# Altium schematic symbol library IDTILab.SchLib: 73 symbols
Pins are listed as number, name and electrical type; pins without a type are passive.

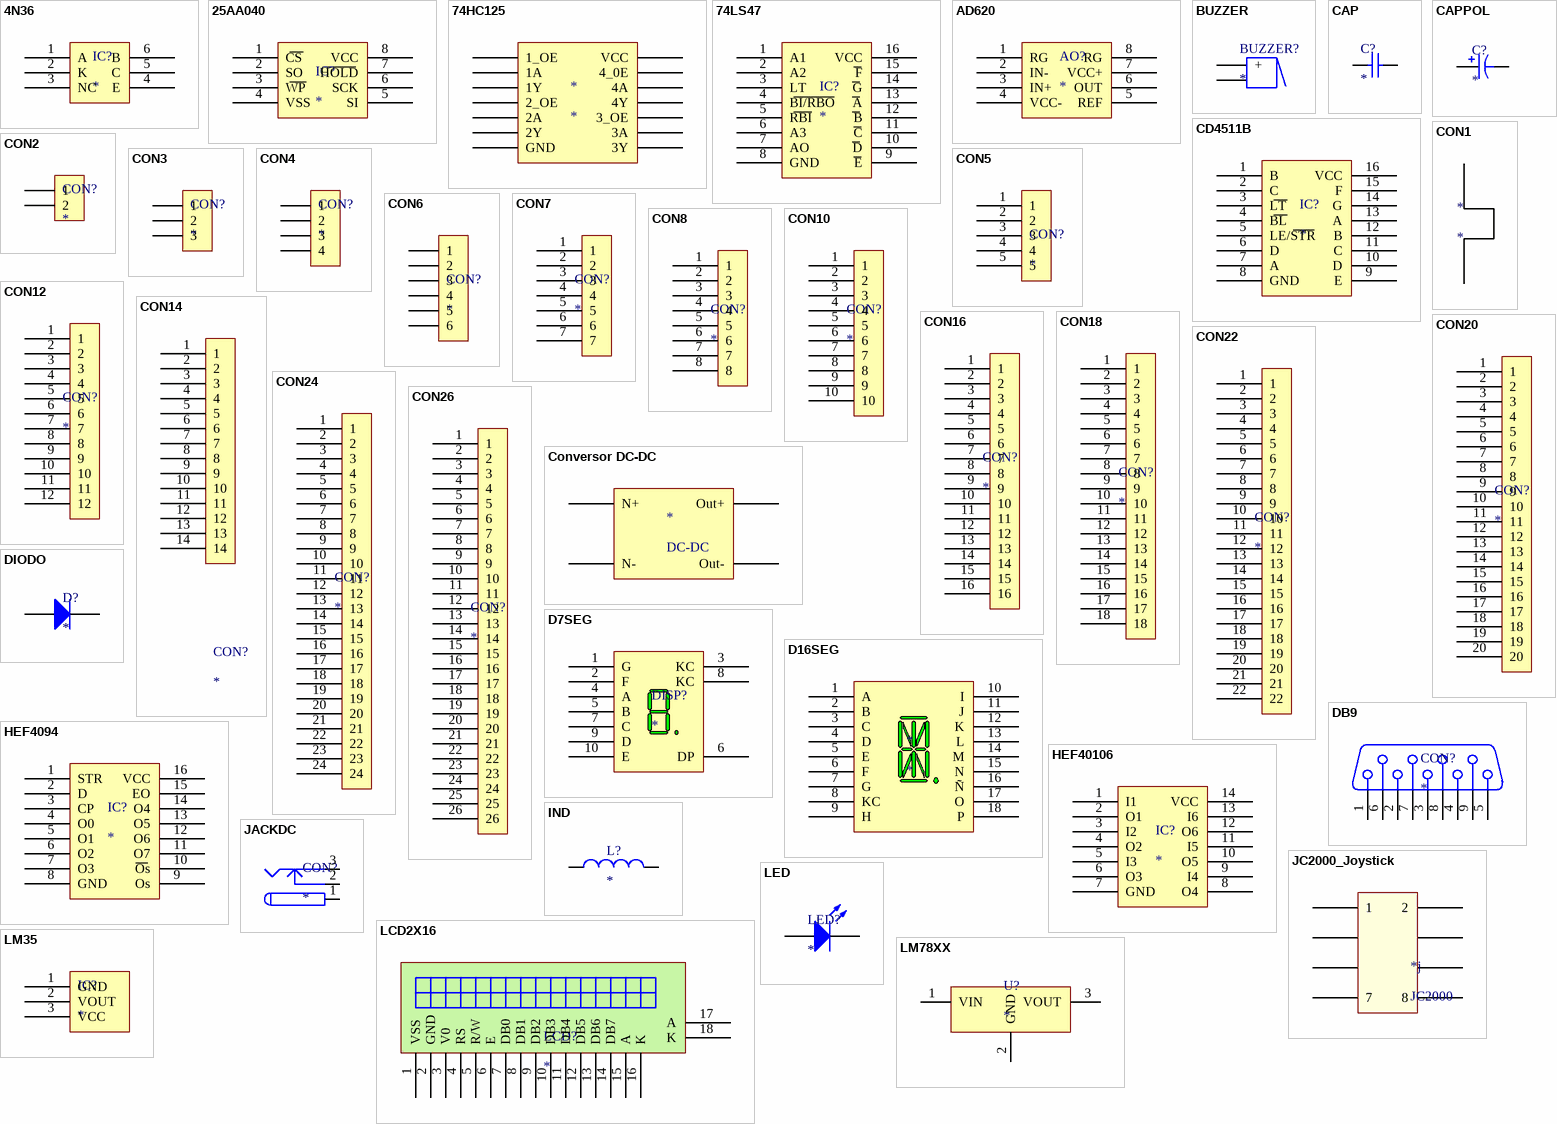
[diagram p0: symbols 4N36 to LM78XX]

## 4N36
designator IC?
Optoacoplador - Salida Transistor
footprint DIP6
pins: 1 A, 2 K, 3 NC, 4 E, 5 C, 6 B

## 25AA040
designator IC?
Memoria Serial - SPI
footprint DIP8
pins: 1 CS, 2 SO, 3 WP, 4 VSS, 5 SI, 6 SCK, 7 HOLD, 8 VCC

## 74HC125
designator *
footprint DIP14B (DIP14 con top layer bloqueado)
pins: 1 1_OE, 2 1A, 3 1Y, 4 2_OE, 5 2A, 6 2Y, 7 GND, 8 3Y, 9 3A, 10 3_OE, 11 4Y, 12 4A, 13 4_0E, 14 VCC

## 74LS47
designator IC?
Conversor BCD - 7 Segmentos
footprint DIP16
pins: 1 A1, 2 A2, 3 LT, 4 BI/RBO, 5 RBI, 6 A3, 7 AO, 8 GND, 9 E, 10 D, 11 C, 12 B, 13 A, 14 G, 15 F, 16 VCC

## AD620
designator AO?
Amplificador Operacional de Instrumentacion
footprint DIP8
pins: 1 RG, 2 IN-, 3 IN+, 4 VCC-, 5 REF, 6 OUT, 7 VCC+, 8 RG

## BUZZER
designator BUZZER?
Buzzer
footprint BUZZER
pins: 1 +, 2

## CAP
designator C?
Capacitor
footprint CAP100
footprint CAP200
footprint CAP300
footprint CAP500
pins: 1, 2

## CAPPOL
designator C?
Capacitor Polarizado
footprint CAPPOL100
footprint CAPPOL200
footprint CAPPOL300
pins: 1, 2

## CD4511B
designator IC?
Conversor BCD - 7 Segmentos
footprint DIP16
pins: 1 B, 2 C, 3 LT, 4 BL, 5 LE/STR, 6 D, 7 A, 8 GND, 9 E, 10 D, 11 C, 12 B, 13 A, 14 G, 15 F, 16 VCC

## CON1
designator *
footprint CON1
pins: 1, 2

## CON2
designator CON?
Conector 2
footprint BORNERA2
footprint BORNERA2B
pins: 1, 2

## CON3
designator CON?
Conector 3
footprint BORNERA3
footprint BORNERA3B
pins: 1, 2, 3

## CON4
designator CON?
Conector 4
footprint BORNERA4
footprint BORNERA4B
footprint MINIDIN4
footprint MINIDIN4B
footprint CON2X2
footprint RJ11
pins: 1, 2, 3, 4

## CON5
designator CON?
Conector 5
footprint CON5
pins: 1, 2, 3, 4, 5

## CON6
designator CON?
Conector 6
footprint BORNERA6 (Footprint not found)
footprint BORNERA6B
footprint MINIDIN6
footprint MINIDIN6B
footprint CON2X3
pins: 1, 2, 3, 4, 5, 6

## CON7
designator CON?
Conector 7
footprint CON7
pins: 1, 2, 3, 4, 5, 6, 7

## CON8
designator CON?
Conector 8
footprint CON8
footprint RJ45
footprint RJ45B
footprint CON2X4
pins: 1, 2, 3, 4, 5, 6, 7, 8

## CON10
designator CON?
Conector 10
footprint CON2X5
pins: 1, 2, 3, 4, 5, 6, 7, 8, 9, 10

## CON12
designator CON?
Conector 12
footprint CON2X6
pins: 1, 2, 3, 4, 5, 6, 7, 8, 9, 10, 11, 12

## CON14
designator CON?
Conector 14
footprint CON2X7
pins: 1, 2, 3, 4, 5, 6, 7, 8, 9, 10, 11, 12, 13, 14

## CON16
designator CON?
Conector 16
footprint CON2X8
pins: 1, 2, 3, 4, 5, 6, 7, 8, 9, 10, 11, 12, 13, 14, 15, 16

## CON18
designator CON?
Conector 18
footprint CON2X9
pins: 1, 2, 3, 4, 5, 6, 7, 8, 9, 10, 11, 12, 13, 14, 15, 16, 17, 18

## CON20
designator CON?
Conector 20
footprint CON2X10
pins: 1, 2, 3, 4, 5, 6, 7, 8, 9, 10, 11, 12, 13, 14, 15, 16, 17, 18, 19, 20

## CON22
designator CON?
Conector 22
footprint CON2X11
pins: 1, 2, 3, 4, 5, 6, 7, 8, 9, 10, 11, 12, 13, 14, 15, 16, 17, 18, 19, 20, 21, 22

## CON24
designator CON?
Conector 24
footprint CON2X12
pins: 1, 2, 3, 4, 5, 6, 7, 8, 9, 10, 11, 12, 13, 14, 15, 16, 17, 18, 19, 20, 21, 22, 23, 24

## CON26
designator CON?
Conector 26
footprint CON2X13
pins: 1, 2, 3, 4, 5, 6, 7, 8, 9, 10, 11, 12, 13, 14, 15, 16, 17, 18, 19, 20, 21, 22, 23, 24, 25, 26

## Conversor DC-DC
designator *, comment DC-DC
footprint Conversor DC-DC
pins: Nn N-, Np N+, Outn Out-, Outp Out+

## D7SEG
designator DISP?
Display 7 Segmentos
footprint D7SEG
pins: 1 G, 2 F, 3 KC, 4 A, 5 B, 6 DP, 7 C, 8 KC, 9 D, 10 E

## D16SEG
designator *
Display 16 Segmentos
footprint D16SEG
pins: 1 A, 2 B, 3 C, 4 D, 5 E, 6 F, 7 G, 8 KC, 9 H, 10 I, 11 J, 12 K, 13 L, 14 M, 15 N, 16 Ñ, 17 O, 18 P

## DB9
designator CON?
Conector DB9
footprint DB9H
footprint DB9M
pins: 1, 2, 3, 4, 5, 6, 7, 8, 9

## DIODO
designator D?
Diodo
footprint DIODO300
footprint DIODO400
footprint DIODO600
footprint DIODO6003A
pins: 1 A, 2 K

## HEF4094
designator IC?
Registro de Desplazamiento
footprint DIP16
pins: 1 STR, 2 D, 3 CP, 4 O0, 5 O1, 6 O2, 7 O3, 8 GND, 9 Os, 10 Os, 11 O7, 12 O6, 13 O5, 14 O4, 15 EO, 16 VCC

## HEF40106
designator IC?
Inversor Trigger Schmitt
footprint DIP14
pins: 1 I1, 2 O1, 3 I2, 4 O2, 5 I3, 6 O3, 7 GND, 8 O4, 9 I4, 10 O5, 11 I5, 12 O6, 13 I6, 14 VCC

## IND
designator L?
Inductancia
footprint RES400
pins: 1, 2

## JACKDC
designator CON?
Conector Jack DC
footprint JACKDC
pins: 1 (power), 2 (power), 3 (power)

## JC2000_Joystick
designator *j, comment JC2000
footprint JC2000
pins: 1, 2, 3, 4, 5, 6, 7, 8

## LCD2X16
designator LCD?
LCD Alfanumerico de 16X2
footprint CON2X9
pins: 1 VSS, 2 GND, 3 V0, 4 RS, 5 R/W, 6 E, 7 DB0, 8 DB1, 9 DB2, 10 DB3, 11 DB4, 12 DB5, 13 DB6, 14 DB7, 15 A, 16 K, 17 A, 18 K

## LED
designator LED?
Diodo Led
footprint LED
pins: 1 A, 2 K

## LM35
designator IC?
Sensor de Temperatura Lineal
footprint BC
pins: 1 GND, 2 VOUT, 3 VCC

## LM78XX
designator U?
Regulador de Tension - Voltajes Positivos
footprint TO220
pins: 1 VIN, 2 GND, 3 VOUT

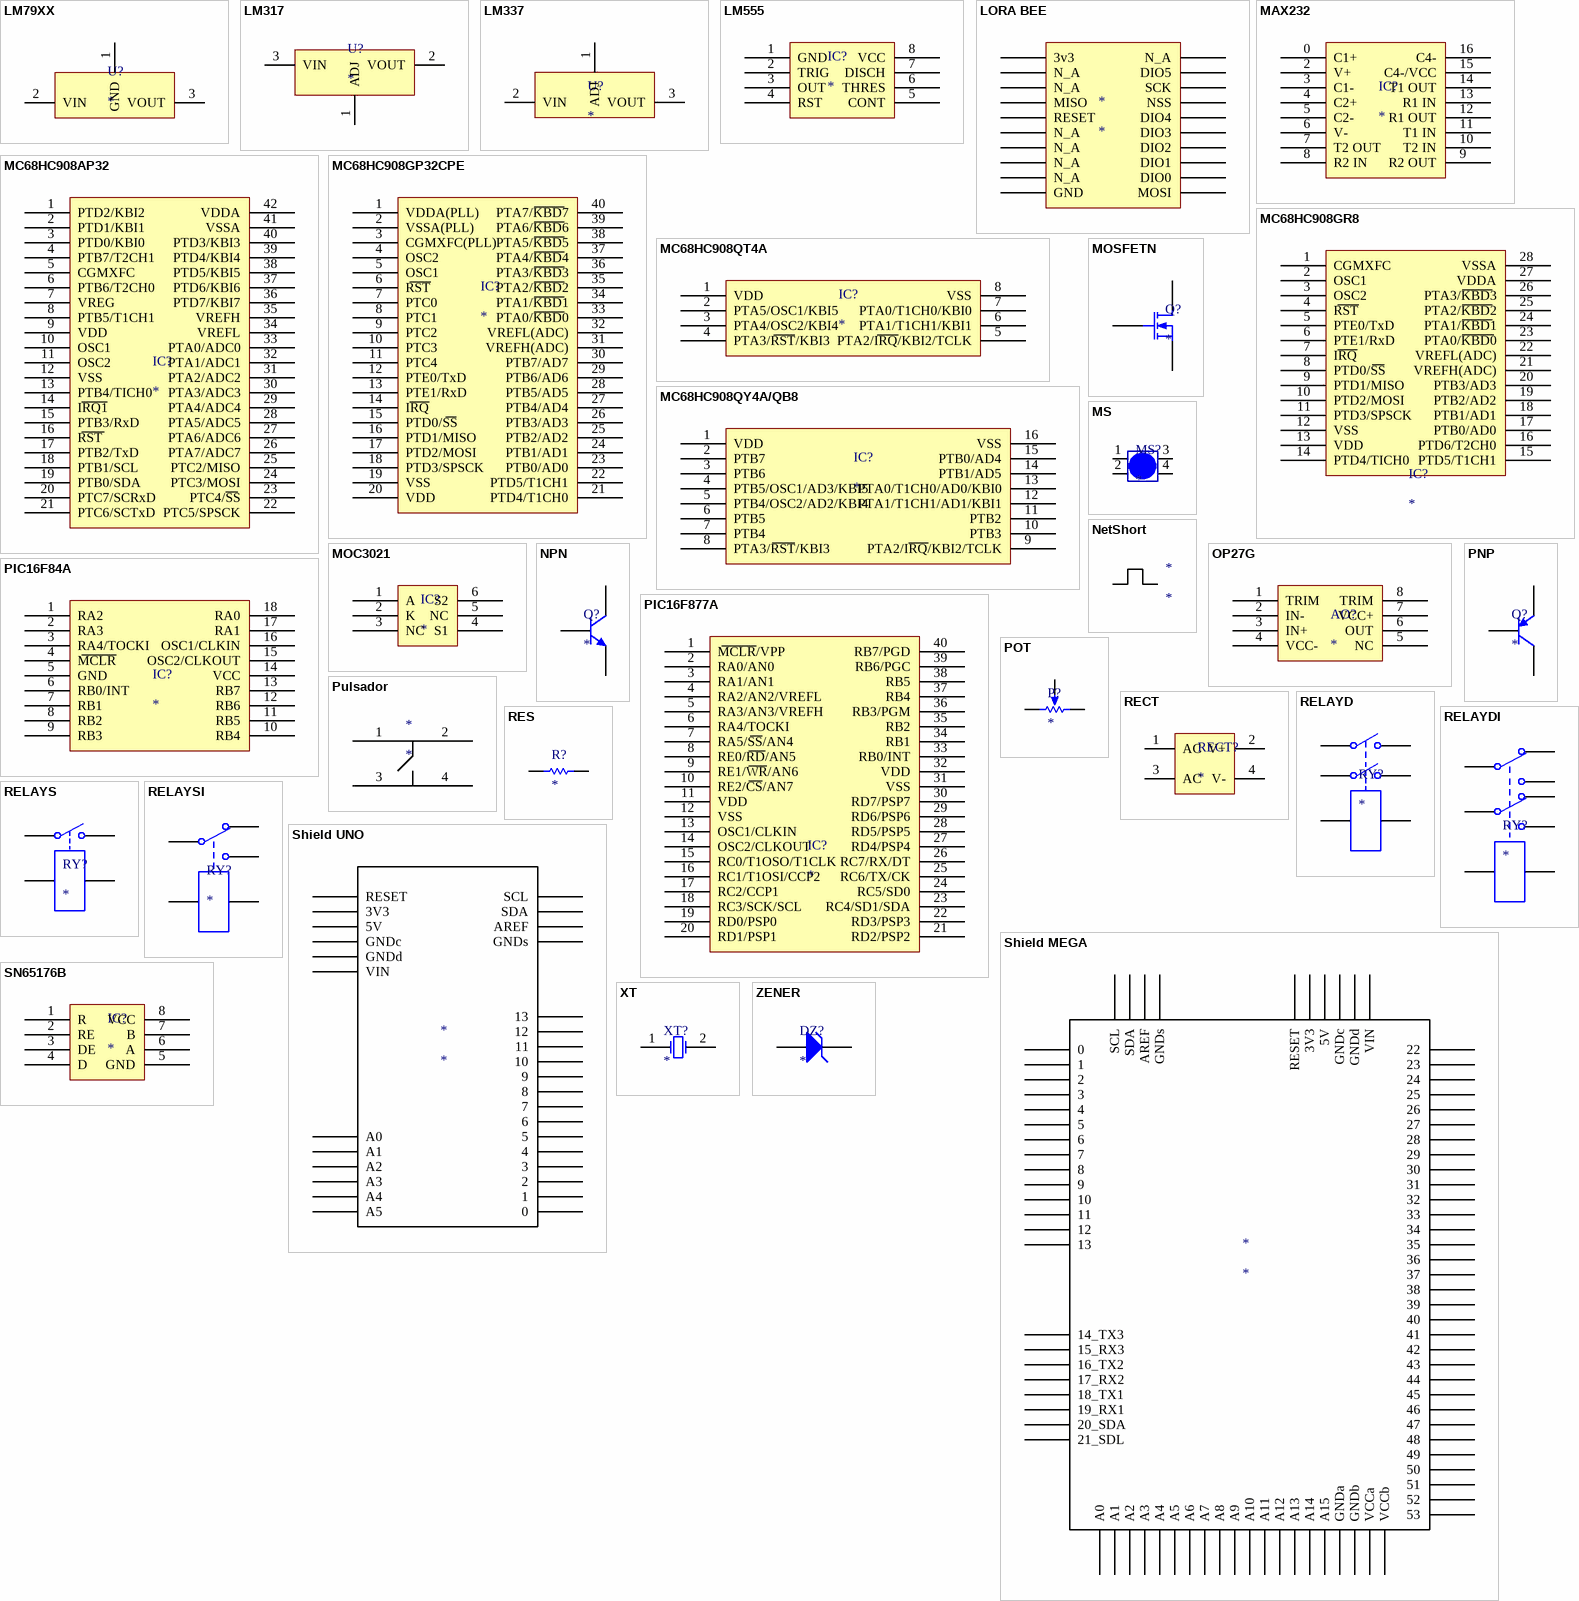
[diagram p1: symbols LM79XX to ZENER]

## LM79XX
designator U?
Regulador de Tension - Voltajes Negativos
footprint TO220
pins: 1 GND, 2 VIN, 3 VOUT

## LM317
designator U?
Regulador de Tension de 1.25V a 37V
footprint TO220
pins: 1 ADJ, 2 VOUT, 3 VIN

## LM337
designator U?
Regulador de Tension Negativa de -1.25V a -37V
footprint TO220
pins: 1 ADJ, 2 VIN, 3 VOUT

## LM555
designator IC?
Timer
footprint DIP8
pins: 1 GND, 2 TRIG, 3 OUT, 4 RST, 5 CONT, 6 THRES, 7 DISCH, 8 VCC

## LORA BEE
designator *
footprint LORABEE (Top Layer Bloqueada)
pins: 1 3v3, 2 N_A, 3 N_A, 4 MISO, 5 RESET, 6 N_A, 7 N_A, 8 N_A, 9 N_A, 10 GND, 11 MOSI, 12 DIO0, 13 DIO1, 14 DIO2, 15 DIO3, 16 DIO4, 17 NSS, 18 SCK, 19 DIO5, 20 N_A

## MAX232
designator IC?
Coversor RS232 - TTL
footprint DIP16
pins: 0 C1+, 2 V+, 3 C1-, 4 C2+, 5 C2-, 6 V-, 7 T2 OUT, 8 R2 IN, 9 R2 OUT, 10 T2 IN, 11 T1 IN, 12 R1 OUT, 13 R1 IN, 14 T1 OUT, 15 C4-/VCC, 16 C4-

## MC68HC908AP32
designator IC?
Microcontrolador Freescale 8 Bits
footprint SPDIP42 (Footprint not found)
pins: 1 PTD2/KBI2, 2 PTD1/KBI1, 3 PTD0/KBI0, 4 PTB7/T2CH1, 5 CGMXFC, 6 PTB6/T2CH0, 7 VREG, 8 PTB5/T1CH1, 9 VDD, 10 OSC1, 11 OSC2, 12 VSS, 13 PTB4/TICH0, 14 IRQ1, 15 PTB3/RxD, 16 RST, 17 PTB2/TxD, 18 PTB1/SCL, 19 PTB0/SDA, 20 PTC7/SCRxD, 21 PTC6/SCTxD, 22 PTC5/SPSCK, 23 PTC4/SS, 24 PTC3/MOSI, 25 PTC2/MISO, 26 PTA7/ADC7, 27 PTA6/ADC6, 28 PTA5/ADC5, 29 PTA4/ADC4, 30 PTA3/ADC3, 31 PTA2/ADC2, 32 PTA1/ADC1, 33 PTA0/ADC0, 34 VREFL, 35 VREFH, 36 PTD7/KBI7, 37 PTD6/KBI6, 38 PTD5/KBI5, 39 PTD4/KBI4, 40 PTD3/KBI3, 41 VSSA, 42 VDDA

## MC68HC908GP32CPE
designator IC?
Microcontrolador Freescale 8 Bits
footprint DIP40
pins: 1 VDDA(PLL), 2 VSSA(PLL), 3 CGMXFC(PLL), 4 OSC2, 5 OSC1, 6 RST, 7 PTC0, 8 PTC1, 9 PTC2, 10 PTC3, 11 PTC4, 12 PTE0/TxD, 13 PTE1/RxD, 14 IRQ, 15 PTD0/SS, 16 PTD1/MISO, 17 PTD2/MOSI, 18 PTD3/SPSCK, 19 VSS, 20 VDD, 21 PTD4/T1CH0, 22 PTD5/T1CH1, 23 PTB0/AD0, 24 PTB1/AD1, 25 PTB2/AD2, 26 PTB3/AD3, 27 PTB4/AD4, 28 PTB5/AD5, 29 PTB6/AD6, 30 PTB7/AD7, 31 VREFH(ADC), 32 VREFL(ADC), 33 PTA0/KBD0, 34 PTA1/KBD1, 35 PTA2/KBD2, 36 PTA3/KBD3, 37 PTA4/KBD4, 38 PTA5/KBD5, 39 PTA6/KBD6, 40 PTA7/KBD7

## MC68HC908GR8
designator IC?
Microcontrolador Freescale 8 Bits
footprint DIP28B
pins: 1 CGMXFC, 2 OSC1, 3 OSC2, 4 RST, 5 PTE0/TxD, 6 PTE1/RxD, 7 IRQ, 8 PTD0/SS, 9 PTD1/MISO, 10 PTD2/MOSI, 11 PTD3/SPSCK, 12 VSS, 13 VDD, 14 PTD4/TICH0, 15 PTD5/T1CH1, 16 PTD6/T2CH0, 17 PTB0/AD0, 18 PTB1/AD1, 19 PTB2/AD2, 20 PTB3/AD3, 21 VREFH(ADC), 22 VREFL(ADC), 23 PTA0/KBD0, 24 PTA1/KBD1, 25 PTA2/KBD2, 26 PTA3/KBD3, 27 VDDA, 28 VSSA

## MC68HC908QT4A
designator IC?
Microcontrolador Freescale 8 Bits
footprint DIP8
pins: 1 VDD, 2 PTA5/OSC1/KBI5, 3 PTA4/OSC2/KBI4, 4 PTA3/RST/KBI3, 5 PTA2/IRQ/KBI2/TCLK, 6 PTA1/T1CH1/KBI1, 7 PTA0/T1CH0/KBI0, 8 VSS

## MC68HC908QY4A/QB8
designator IC?
Microcontrolador Freescale 8 Bits
footprint DIP16
pins: 1 VDD, 2 PTB7, 3 PTB6, 4 PTB5/OSC1/AD3/KBI5, 5 PTB4/OSC2/AD2/KBI4, 6 PTB5, 7 PTB4, 8 PTA3/RST/KBI3, 9 PTA2/IRQ/KBI2/TCLK, 10 PTB3, 11 PTB2, 12 PTA1/T1CH1/AD1/KBI1, 13 PTA0/T1CH0/AD0/KBI0, 14 PTB1/AD5, 15 PTB0/AD4, 16 VSS

## MOC3021
designator IC?
Optoacoplador Salida Triac
footprint DIP6
pins: 1 A, 2 K, 3 NC, 4 S1, 5 NC, 6 S2

## MOSFETN
designator Q?
Transistor Mosfet Canal N
footprint TO220
footprint TO247
pins: 1 G, 2 D, 3 S

## MS
designator MS?
Micro Switch
footprint MS
pins: 1, 2, 3, 4

## NetShort
designator *  (net tie, no BOM)
footprint NetShort
pins: 1, 2

## NPN
designator Q?
Transistor NPN
footprint BC
pins: 1 C, 2 B, 3 E

## OP27G
designator AO?
Amplificador Operacional
footprint DIP8
pins: 1 TRIM, 2 IN-, 3 IN+, 4 VCC-, 5 NC, 6 OUT, 7 VCC+, 8 TRIM

## PIC16F84A
designator IC?
Microcontrolador Microchip 8 Bits
footprint DIP18
pins: 1 RA2, 2 RA3, 3 RA4/TOCKI, 4 MCLR, 5 GND, 6 RB0/INT, 7 RB1, 8 RB2, 9 RB3, 10 RB4, 11 RB5, 12 RB6, 13 RB7, 14 VCC, 15 OSC2/CLKOUT, 16 OSC1/CLKIN, 17 RA1, 18 RA0

## PIC16F877A
designator IC?
Microcontrolador Microchip 8 Bits
footprint DIP40
pins: 1 MCLR/VPP, 2 RA0/AN0, 3 RA1/AN1, 4 RA2/AN2/VREFL, 5 RA3/AN3/VREFH, 6 RA4/TOCKI, 7 RA5/SS/AN4, 8 RE0/RD/AN5, 9 RE1/WR/AN6, 10 RE2/CS/AN7, 11 VDD, 12 VSS, 13 OSC1/CLKIN, 14 OSC2/CLKOUT, 15 RC0/T1OSO/T1CLK, 16 RC1/T1OSI/CCP2, 17 RC2/CCP1, 18 RC3/SCK/SCL, 19 RD0/PSP0, 20 RD1/PSP1, 21 RD2/PSP2, 22 RD3/PSP3, 23 RC4/SD1/SDA, 24 RC5/SD0, 25 RC6/TX/CK, 26 RC7/RX/DT, 27 RD4/PSP4, 28 RD5/PSP5, 29 RD6/PSP6, 30 RD7/PSP7, 31 VSS, 32 VDD, 33 RB0/INT, 34 RB1, 35 RB2, 36 RB3/PGM, 37 RB4, 38 RB5, 39 RB6/PGC, 40 RB7/PGD

## PNP
designator Q?
Transistor PNP
footprint BC
pins: 1 C, 2 B, 3 E

## POT
designator P?
Potenciometro - Preset
footprint PMULTI
footprint PRESET1
footprint PRESET2
footprint PRESET3
pins: 1, 2, 3

## Pulsador
designator *
footprint PULSADOR
pins: 1, 2, 3, 4

## RECT
designator RECT?
Puente Rectificador
footprint RECT
footprint RECTRED
pins: 1 AC, 2 V+, 3 AC, 4 V-

## RELAYD
designator RY?
Relay Doble
pins: 1, 2, 3, 4, 5, 6

## RELAYDI
designator RY?
Relay Doble Inversor
pins: 1, 2, 3, 4, 5, 6, 7, 8

## RELAYS
designator RY?
Relay Simple
pins: 1, 2, 3, 4

## RELAYSI
designator RY?
Relay Simple Inversor
footprint RELAYSI
pins: 1, 2, 3, 4, 5

## RES
designator R?
Resistencia
footprint RES300
footprint RES400
footprint RES600
footprint RES1100
footprint RES1300
footprint RES2200
pins: 1, 2

## Shield MEGA
designator *
footprint Shield Mega
pins: 0, 1, 2, 3, 3V3, 4, 5, 5V, 6, 7, 8, 9, 10, 11, 12, 13, 14 14_TX3, 15 15_RX3, 16 16_TX2, 17 17_RX2, 18 18_TX1, 19 19_RX1, 20 20_SDA, 21 21_SDL, 22, 23, 24, 25, 26, 27, 28, 29, 30, 31, 32, 33, 34, 35, 36, 37, 38, 39, 40, 41, 42, 43, 44, 45, 46, 47, 48, 49, 50, 51, 52, 53, A0, A1, A2, A3, A4, A5, A6, A7, A8, A9, A10, A11, A12, A13, A14, A15, AREF, GNDa, GNDb, GNDc, GNDd, GNDs, RESET, SCL, SDA, VCCa, VCCb, VIN

## Shield UNO
designator *
footprint Shield UNO
pins: 0, 1, 2, 3, 3V3, 4, 5, 5V, 6, 7, 8, 9, 10, 11, 12, 13, A0, A1, A2, A3, A4, A5, AREF, GNDc, GNDd, GNDs, RESET, SCL, SDA, VIN

## SN65176B
designator IC?
Conversor RS232 - RS485
footprint DIP8
pins: 1 R, 2 RE, 3 DE, 4 D, 5 GND, 6 A, 7 B, 8 VCC

## XT
designator XT?
Cristal de Quarzo
footprint XT
footprint XTRED
pins: 1 OSC1, 2 OSC2

## ZENER
designator DZ?
Diodo Zener
footprint DIODO300
footprint DIODO400
pins: 1 A, 2 K